# Altium footprint library Connectors.PcbLib: 4 footprints
Each footprint in its own frame and in the unit in brackets; x right, y up, seen from the top. Pads: shape width x height; smd on the part's side, far side on the other; paste and mask are expansions set on the pad; w line width, h text height; cw(c..) or ccw(c..) is an arc to the next point about the centre after c.
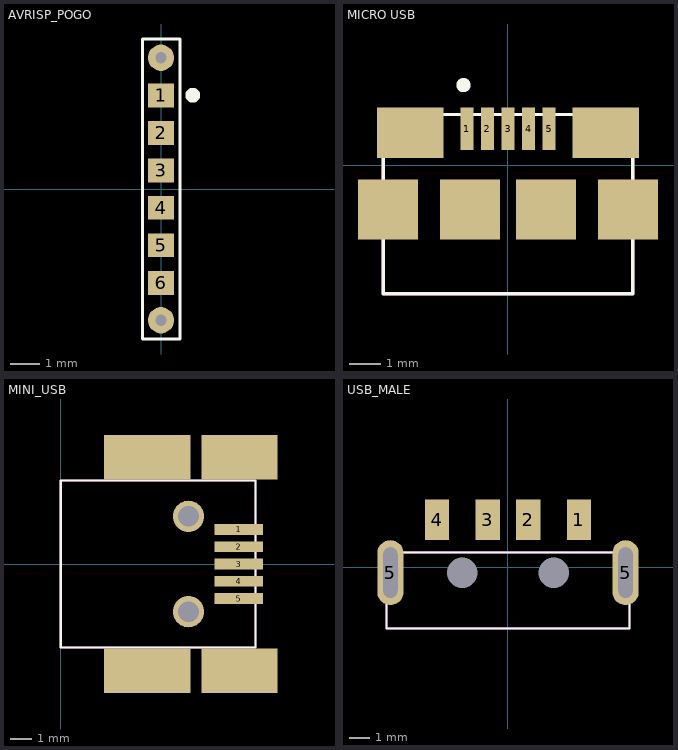
[diagram p0: the footprints below, top view; thin cyan lines are the x and y axes]

## AVRISP_POGO [mil]
pads (8):
  rect 35x32 smd: 1(0,125) 2(0,75) 3(0,25) 4(0,-25) 5(0,-75) 6(0,-125)
  round 35 hole 15: ""(0,-175) ""(0,175)
Top Overlay:
  circle w11.81: c42.32,125 r3.94
  lines w3.94: -25,-200 25,-200 25,200 -25,200 -25,-200

## MICRO USB [mm]
pads (11):
  rect 0.4x1.35 smd: 1(-1.287,1.156) 2(-0.637,1.156) 3(0.013,1.156) 4(0.663,1.156) 5(1.313,1.156)
  rect 1.9x1.9 smd: ""(-3.787,-1.394) ""(-1.187,-1.394) ""(1.213,-1.394) ""(3.813,-1.394)
  rect 2.1x1.6 smd: ""(-3.087,1.031) ""(3.113,1.031)
Top Overlay:
  circle w0.4: c-1.397,2.54 r0.025
  lines w0.1: -3.937,-4.064 3.963,-4.064 3.963,1.606 -3.937,1.606 -3.937,-4.064
Mechanical 2:
  lines w0.1: -3.937,-4.064 3.963,-4.064 3.963,1.606 -3.937,1.606 -3.937,-4.064
3D body "Micro-USB.STEP": height 2.67, standoff -0.27, extent -3.99,-4 3.99,1.43

## MINI_USB [mm]
pads (11):
  rect 2.25x0.5 smd: 1(8.225,1.6) 2(8.225,0.8) 3(8.225,0) 4(8.225,-0.8) 5(8.225,-1.6)
  rect 4x2.05 smd: ""(4,-4.925) ""(4,4.925)
  round 1.45 hole 0.95: ""(5.9,-2.2) ""(5.9,2.2)
  rect 3.5x2.05 smd: ""(8.25,-4.925) ""(8.25,4.925)
Top Overlay:
  lines w0.1: 0,-3.85 9,-3.85 9,3.85 0,3.85 0,-3.85
Mechanical 2:
  lines w0.1: 0,-3.85 0,3.85 9,3.85 9,-3.85 0,-3.85
3D body "67503-1020.stp": height 3.93, standoff -1.02, extent 0,-4.95 9,4.95

## USB_MALE [mm]
pads (8):
  rect 1.2x2 smd paste-99: 1(3.5,2.325) 2(1,2.325) 3(-1,2.325) 4(-3.5,2.325)
  oval 1.3x3.2 hole 0.7 slot 2.5 at 90 deg: 5(-5.8,-0.275) 5(5.8,-0.275)
  round 0.6 hole 1.5 unplated: ""(-2.25,-0.275) ""(2.25,-0.275)
Top Overlay:
  lines w0.1: -6,-3.025 -6,0.725 6,0.725 6,-3.025 -6,-3.025
Mechanical 2:
  lines w0.1: -5.995,-3.02 6.005,-3.02 6.005,0.73 -5.995,0.73 -5.995,-3.02
3D body "USB_Male.step": height 4, standoff -3, extent -6.227,-18.276 6.2,3.326